# Altium schematic symbol library Resistor Networks, Arrays.SchLib: 13 symbols
Pins are listed as number, name and electrical type; pins without a type are passive.

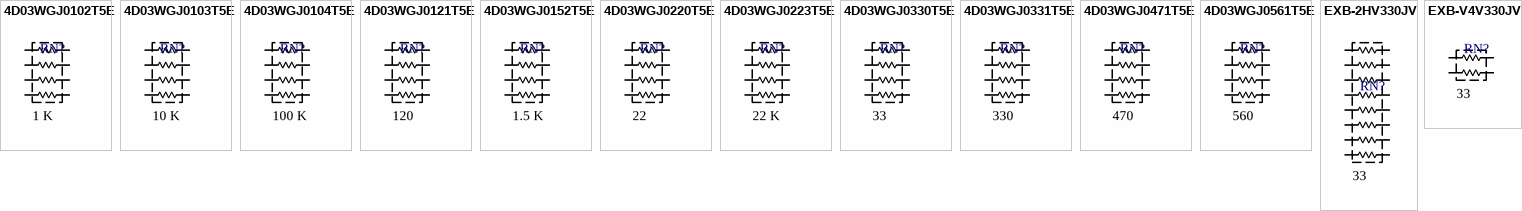
[diagram p0: symbols 4D03WGJ0102T5E to EXB-V4V330JV]

## 4D03WGJ0102T5E
designator RN?  Resistance (Ohms): 1 K  (hidden comment: *)
RES ARRAY 4 RES 1K OHM 0603
footprint ROYALOHM_4D03
pins: 1, 2, 3, 4, 5, 6, 7, 8

## 4D03WGJ0103T5E
designator RN?  Resistance (Ohms): 10 K  (hidden comment: *)
RES ARRAY 4 RES 10K OHM 0603
footprint ROYALOHM_4D03
pins: 1, 2, 3, 4, 5, 6, 7, 8

## 4D03WGJ0104T5E
designator RN?  Resistance (Ohms): 100 K  (hidden comment: *)
RES ARRAY 4 RES 100K OHM 0603
footprint ROYALOHM_4D03
pins: 1, 2, 3, 4, 5, 6, 7, 8

## 4D03WGJ0121T5E
designator RN?  Resistance (Ohms): 120  (hidden comment: *)
RES ARRAY 4 RES 120 OHM 0603
footprint ROYALOHM_4D03
pins: 1, 2, 3, 4, 5, 6, 7, 8

## 4D03WGJ0152T5E
designator RN?  Resistance (Ohms): 1.5 K  (hidden comment: *)
RES ARRAY 4 RES 1.5K OHM 0603
footprint ROYALOHM_4D03
pins: 1, 2, 3, 4, 5, 6, 7, 8

## 4D03WGJ0220T5E
designator RN?  Resistance (Ohms): 22  (hidden comment: *)
RES ARRAY 4 RES 22R OHM 0603
footprint ROYALOHM_4D03
pins: 1, 2, 3, 4, 5, 6, 7, 8

## 4D03WGJ0223T5E
designator RN?  Resistance (Ohms): 22 K  (hidden comment: *)
RES ARRAY 4 RES 22K OHM 0603
footprint ROYALOHM_4D03
pins: 1, 2, 3, 4, 5, 6, 7, 8

## 4D03WGJ0330T5E
designator RN?  Resistance (Ohms): 33  (hidden comment: *)
RES ARRAY 4 RES 33R OHM 0603
footprint ROYALOHM_4D03
pins: 1, 2, 3, 4, 5, 6, 7, 8

## 4D03WGJ0331T5E
designator RN?  Resistance (Ohms): 330  (hidden comment: *)
RES ARRAY 4 RES 330R OHM 0603
footprint ROYALOHM_4D03
pins: 1, 2, 3, 4, 5, 6, 7, 8

## 4D03WGJ0471T5E
designator RN?  Resistance (Ohms): 470  (hidden comment: *)
RES ARRAY 4 RES 470R OHM 0603
footprint ROYALOHM_4D03
pins: 1, 2, 3, 4, 5, 6, 7, 8

## 4D03WGJ0561T5E
designator RN?  Resistance (Ohms): 560  (hidden comment: *)
RES ARRAY 4 RES 560R OHM 0603
footprint ROYALOHM_4D03
pins: 1, 2, 3, 4, 5, 6, 7, 8

## EXB-2HV330JV
designator RN?  Resistance (Ohms): 33  (hidden comment: *)
RES ARRAY 8 RES 33 OHM 1506; Supplier 1: Digi-Key; Supplier 2: Farnell; Supplier 3: Mouser; Supplier Part Number 1: Y1330CT-ND; Supplier Part Number 2: 2060066; Supplier Part Number 3: 667-EXB-2HV330JV
footprint PANASONIC_EXB2HV
pins: 1, 2, 3, 4, 5, 6, 7, 8, 9, 10, 11, 12, 13, 14, 15, 16

## EXB-V4V330JV
designator RN?  Resistance (Ohms): 33  (hidden comment: *)
RES ARRAY 2 RES 33 OHM 0606; Supplier 1: Digi-Key; Supplier 2: Mouser; Supplier 3: Arrow Electronics; Supplier Part Number 1: Y2330CT-ND; Supplier Part Number 2: 667-EXB-V4V330JV; Supplier Part Number 3: EXB-V4V330JV
footprint PANASONIC_EXBV4V
pins: 1, 2, 3, 4